# Altium schematic symbol library Analogprj.SchLib: 6 symbols
Pins are listed as number, name and electrical type; pins without a type are passive.

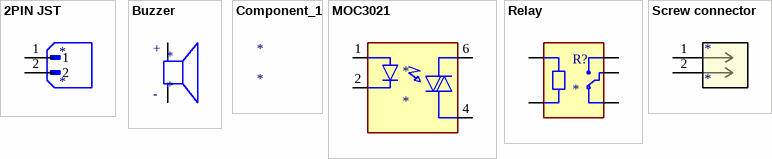
[diagram p0: symbols 2PIN JST to Screw connector]

## 2PIN JST
designator *
footprint JST 2PIN
pins: 1, 2

## Buzzer
designator *
footprint Buzzer
pins: N, P
text: +; -

## Component_1
designator *
RISC Microcontroller, 8-Bit, FLASH, PIC CPU, 20MHz, CMOS, PDIP18; Manufacturer: Microchip; Manufacturer Part Number: PIC16F627A-I/P; Package Body Material: Plastic; Number of I/O Lines: 16; Max Supply Voltage: 5.5V; Min Supply Voltage: 4.5V; Nominal Supply Voltage: 5V; Surface Mount: No; Peripherals: POR,PWM,WDT; Interface: USART; Package Equivalence Code: DIP18,.3; Qualification Status: Not Qualified; Supplier: Digikey; Supplier Part Number: PIC16F627A-I/P-ND; RoHS: Yes; Category: Microcontrollers; Stock: 678; Pricing: 1=2.54 (USD); Case/Package: DIP; Pins: 18; Package Shape: Rectangular; Terminal Finish: Tin; Min Operating Temperature: -40°C; Max Operating Temperature: 85°C; JESD-609 Code: e3; Clock Frequency: 20MHz; Power Supplies: 3.3/5; Technology: CMOS; Terminal Form: Through Hole; Terminal Position: DUAL; JESD-30 Code: R-PDIP-T18; Length: 22.86mm; Width: 7.62mm; Height - Seated (Max): 5.334mm; Terminal Pitch: 2.54mm; Temperature Grade: INDUSTRIAL; Reach SVHC Compliant: Yes; RoHS Compliant: Yes; ComponentLink1URL: https://datasheet.ciiva.com:443/pdfs/VipMasterIC/IC/MCHP/MCHPS03015/MCHPS03015-1.pdf?src-supplier=IHS+Markit; ComponentLink1Description: https://datasheet.ciiva.com:443/pdfs/VipMasterIC/IC/MCHP/MCHPS03015/MCHPS03015-1.pdf?src-supplier=IHS+Markit

## MOC3021
designator *
footprint MOC3021
pins: 1 ANODE, 2 CATODE, 4 MAIN_TERM2, 6 MAIN_TERM1

## Relay
designator R?
footprint Relay
pins: A1, A2, COM, NC, NO

## Screw connector
designator *
footprint Screw Connector
pins: 1, 2